# EAGLE library part TPS6217X (library stepOSP)
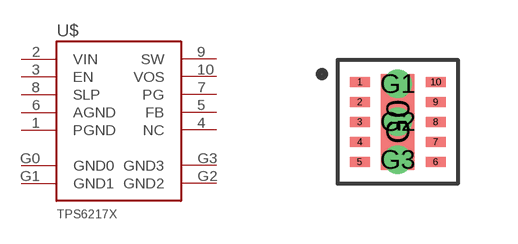
[diagram p52: symbol with the pads of TPS6217X; footprint TPS6217X]

Designator prefix U$

## TPS6217X  [TPS6217X]
1  PGND
2  VIN
3  EN
4  NC
5  FB
6  AGND
7  PG
8  SLP
9  SW
10  VOS
G0  GND0
G1  GND1
G2  GND2
G3  GND3

## Footprint TPS6217X (pad centres in mm)
smd 0.5 x 0.25: 1 -0.95,1; 2 -0.95,0.5; 3 -0.95,0; 4 -0.95,-0.5; 5 -0.95,-1; 6 0.95,-1; 7 0.95,-0.5; 8 0.95,0; 9 0.95,0.5; 10 0.95,1
smd 0.84 x 2.4: G0 0,0
drill 0.2 pad 0.4: G1 0,0.95; G2 0,0; G3 0,-0.95